# EAGLE library part RCTRL_CONNECTOR_CHANNELS_MINI (library igorsales)
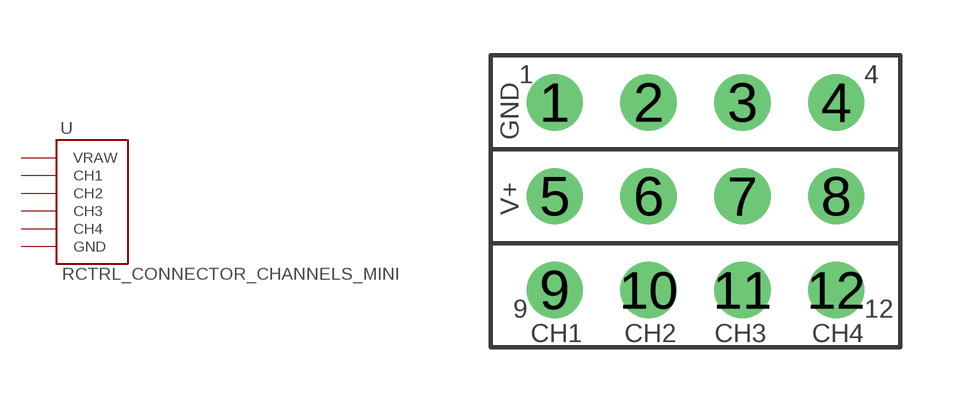
[diagram p2: symbol with the pads of HEADER3X4-2.54MM; footprint HEADER3X4-2.54MM]

Designator prefix -

## RCTRL_CONNECTOR_CHANNELS_MINI  [HEADER3X4-2.54MM]
1  GND  pwr
2  GND  pwr
3  GND  pwr
4  GND  pwr
5  VRAW  pwr
6  VRAW  pwr
7  VRAW  pwr
8  VRAW  pwr
9  CH1  in
10  CH2  in
11  CH3  in
12  CH4  in

## Footprint HEADER3X4-2.54MM (pad centres in mm)
HEADER 3X4 2.54MM pitch, 5mm contact lead length
drill 1.016: 1 -3.81,2.54; 2 -1.27,2.54; 3 1.27,2.54; 4 3.81,2.54; 5 -3.81,0; 6 -1.27,0; 7 1.27,0; 8 3.81,0; 9 -3.81,-2.54; 10 -1.27,-2.54; 11 1.27,-2.54; 12 3.81,-2.54